# EAGLE library part BM06B-GHS-TBT(LF)(SN)(N) (library HEXABITZ_CONNECTION_PARTS)
Conn Header Gh Top 6pos 1.25mm
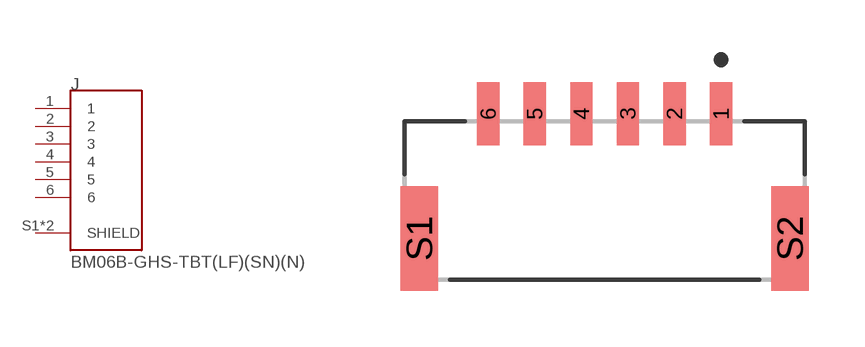
[diagram p0: symbol with the pads of JST_BM06B-GHS-TBT(LF)(SN)(N); footprint JST_BM06B-GHS-TBT(LF)(SN)(N)]

Designator prefix J

## BM06B-GHS-TBT(LF)(SN)(N) (AVAILABILITY: Unavailable; DESCRIPTION: Connector Header Surface Mount 6 position 0.049 _1.25mm_; MF: JST Sales; MP: BM06B-GHS-TBT_LF__SN__N_; PACKAGE: None; PRICE: None)  [JST_BM06B-GHS-TBT(LF)(SN)(N)]
1  1  pas
2  2  pas
3  3  pas
4  4  pas
5  5  pas
6  6  pas
S1  SHIELD  pas
S2  SHIELD  pas

## Footprint JST_BM06B-GHS-TBT(LF)(SN)(N) (pad centres in mm)
smd 0.6 x 1.7: 1 3.125,3.35; 2 1.875,3.35; 3 0.625,3.35; 4 -0.625,3.35; 5 -1.875,3.35; 6 -3.125,3.35
smd 1 x 2.8: S1 -4.975,0; S2 4.975,0